# Altium schematic symbol library AVRL161A1R1NTA.SchLib: 1 symbol
Pins are listed as number, name and electrical type; pins without a type are passive.

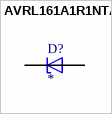
[diagram p0: symbol AVRL161A1R1NTA]

## AVRL161A1R1NTA
designator D?
MF: {'manufacturer': u'TDK'}; MP: AVRL161A1R1NTA; Package: None; Price: None; Value: *; Availability: Unavailable
footprint TVS_AVRL161A1R1NTA
pins: 1 C, 2 A